# Altium footprint library VREG_TS9013SCY_RMG.PcbLib: 1 footprints
Each footprint in its own frame and in the unit in brackets; x right, y up, seen from the top. Pads: shape width x height; smd on the part's side, far side on the other; paste and mask are expansions set on the pad; w line width, h text height; cw(c..) or ccw(c..) is an arc to the next point about the centre after c.
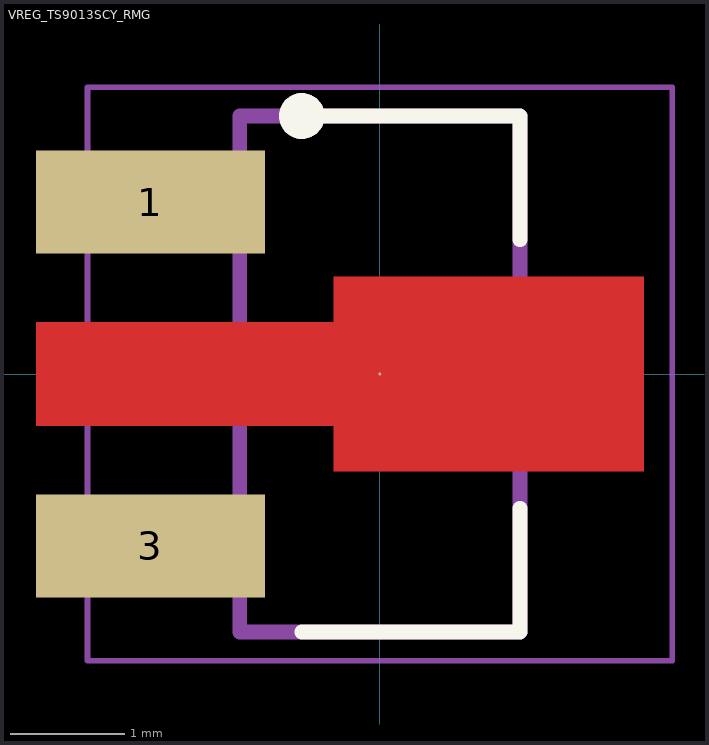
[diagram p0: the footprint, top view; thin cyan lines are the x and y axes]

## VREG_TS9013SCY_RMG [mm]
height 1.6
pads (3):
  rect 2x0.9 smd: 1(-2,1.5) 3(-2,-1.5)
  round 0.025 smd: 2(0,0)
Top Layer:
  region: -0.4,-0.85 -0.4,-0.45 -2.998,-0.45 -2.998,0.45 -0.4,0.45 -0.4,0.85 2.3,0.85 2.3,-0.85
Top Overlay:
  circle w0.2: c-0.68,2.25 r0.1
  lines w0.127: -0.68,-2.25 1.222,-2.25 1.222,-1.17 ; -0.68,2.25 1.222,2.25 1.222,1.17
Mechanical 13:
  circle w0.2: c-0.68,2.25 r0.1
  lines w0.127: -1.222,-2.25 -1.222,2.25 1.222,2.25 1.222,-2.25 -1.222,-2.25
Mechanical 15:
  lines w0.05: -2.55,-2.5 -2.55,2.5 2.55,2.5 2.55,-2.5 -2.55,-2.5
3D body "step_temp.STEP": height 1.6, standoff 0, extent -2.268,-2.25 1.827,2.25